# EAGLE library part ZEALIOS (library Cherry_MX Taster)
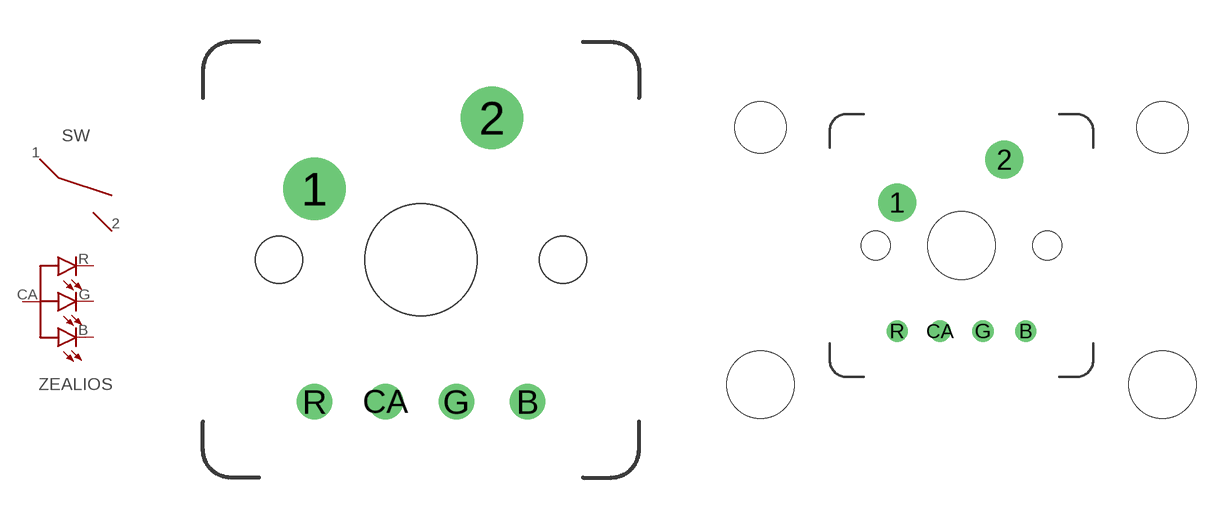
[diagram p0: symbol with the pads of ZEALIOS-PCB_1U; footprints ZEALIOS-PCB_1U, ZEALIOS-PCB_2U]

Designator prefix SW

## ZEALIOS  [ZEALIOS-PCB_1U]
1  1  pas
2  2  pas
B  B-CAT  pas
CA  COMMON-ANODE  pas
G  G-CAT  pas
R  R-CAT  pas

## ZEALIOS_2U  [ZEALIOS-PCB_2U]
Pads as for ZEALIOS-PCB_1U

## ZEALIOS_2U-ALT  [ZEALIOS-PCB_2U-ALT]
Pads as for ZEALIOS-PCB_1U

## ZEALIOS_6.25U  [ZEALIOS-PCB_6.25U]
Pads as for ZEALIOS-PCB_1U

## ZEALIOS_7U  [ZEALIOS-PCB_7U]
Pads as for ZEALIOS-PCB_1U

## ZEALIOS_1U-NO_LEGENDS  [ZEALIOS_ALT-PCB_1U]
Pads as for ZEALIOS-PCB_1U

## ZEALIOS_2U-NO_LEGENDS  [ZEALIOS_ALT-PCB_2U]
Pads as for ZEALIOS-PCB_1U

## ZEALIOS_2U_ALT-NO_LEGENDS  [ZEALIOS_ALT-PCB_2U-ALT]
Pads as for ZEALIOS-PCB_1U

## Footprint ZEALIOS-PCB_1U (pad centres in mm)
drill 1.5: 1 -3.81,2.54; 2 2.54,5.08
drill 0.75: B 3.81,-5.08; CA -1.27,-5.08; G 1.27,-5.08; R -3.81,-5.08
hole 4 at 0,0
hole 1.7 at -5.08,0
hole 1.7 at 5.08,0

## Footprint ZEALIOS-PCB_2U (pad centres in mm)
drill 1.5: 1 -3.81,2.54; 2 2.54,5.08
drill 0.75: B 3.81,-5.08; CA -1.27,-5.08; G 1.27,-5.08; R -3.81,-5.08
hole 1.7 at -5.08,0
hole 1.7 at 5.08,0
hole 4 at 0,0
hole 3.05 at -11.9,7
hole 3.05 at 11.9,7
hole 4 at 11.9,-8.24
hole 4 at -11.9,-8.24

## Footprint ZEALIOS-PCB_2U-ALT (pad centres in mm)
drill 1.5: 1 -3.81,2.54; 2 2.54,5.08
drill 0.75: B 3.81,-5.08; CA -1.27,-5.08; G 1.27,-5.08; R -3.81,-5.08
hole 1.7 at -5.08,0
hole 1.7 at 5.08,0
hole 4 at 0,0
hole 3.05 at 11.9,-7
hole 3.05 at -11.9,-7
hole 4 at -11.9,8.24
hole 4 at 11.9,8.24

## Footprint ZEALIOS-PCB_6.25U (pad centres in mm)
drill 1.5: 1 -3.81,2.54; 2 2.54,5.08
drill 0.75: B 3.81,-5.08; CA -1.27,-5.08; G 1.27,-5.08; R -3.81,-5.08
hole 3.05 at 50,-7
hole 3.05 at -50,-7
hole 4 at -50,8.24
hole 4 at 50,8.24
hole 4 at 0,0
hole 1.7 at -5.08,0
hole 1.7 at 5.08,0

## Footprint ZEALIOS-PCB_7U (pad centres in mm)
drill 1.5: 1 -3.81,2.54; 2 2.54,5.08
drill 0.75: B 3.81,-5.08; CA -1.27,-5.08; G 1.27,-5.08; R -3.81,-5.08
hole 3.05 at 57.15,-7
hole 3.05 at -57.15,-7
hole 4 at -57.15,8.24
hole 4 at 57.15,8.24
hole 4 at 0,0
hole 1.7 at -5.08,0
hole 1.7 at 5.08,0

## Footprint ZEALIOS_ALT-PCB_1U (pad centres in mm)
drill 1.5: 1 -3.81,2.54; 2 2.54,5.08
drill 0.75: B 3.81,-5.08; CA -1.27,-5.08; G 1.27,-5.08; R -3.81,-5.08
hole 4 at 0,0
hole 1.7 at -5.08,0
hole 1.7 at 5.08,0

## Footprint ZEALIOS_ALT-PCB_2U (pad centres in mm)
drill 1.5: 1 -3.81,2.54; 2 2.54,5.08
drill 0.75: B 3.81,-5.08; CA -1.27,-5.08; G 1.27,-5.08; R -3.81,-5.08
hole 1.7 at -5.08,0
hole 1.7 at 5.08,0
hole 4 at 0,0
hole 3.05 at -11.9,7
hole 3.05 at 11.9,7
hole 4 at 11.9,-8.24
hole 4 at -11.9,-8.24

## Footprint ZEALIOS_ALT-PCB_2U-ALT (pad centres in mm)
drill 1.5: 1 -3.81,2.54; 2 2.54,5.08
drill 0.75: B 3.81,-5.08; CA -1.27,-5.08; G 1.27,-5.08; R -3.81,-5.08
hole 1.7 at -5.08,0
hole 1.7 at 5.08,0
hole 4 at 0,0
hole 3.05 at 11.9,-7
hole 3.05 at -11.9,-7
hole 4 at -11.9,8.24
hole 4 at 11.9,8.24